# Altium schematic symbol library HC11_lib.SchLib: 34 symbols (part 2 of 2)
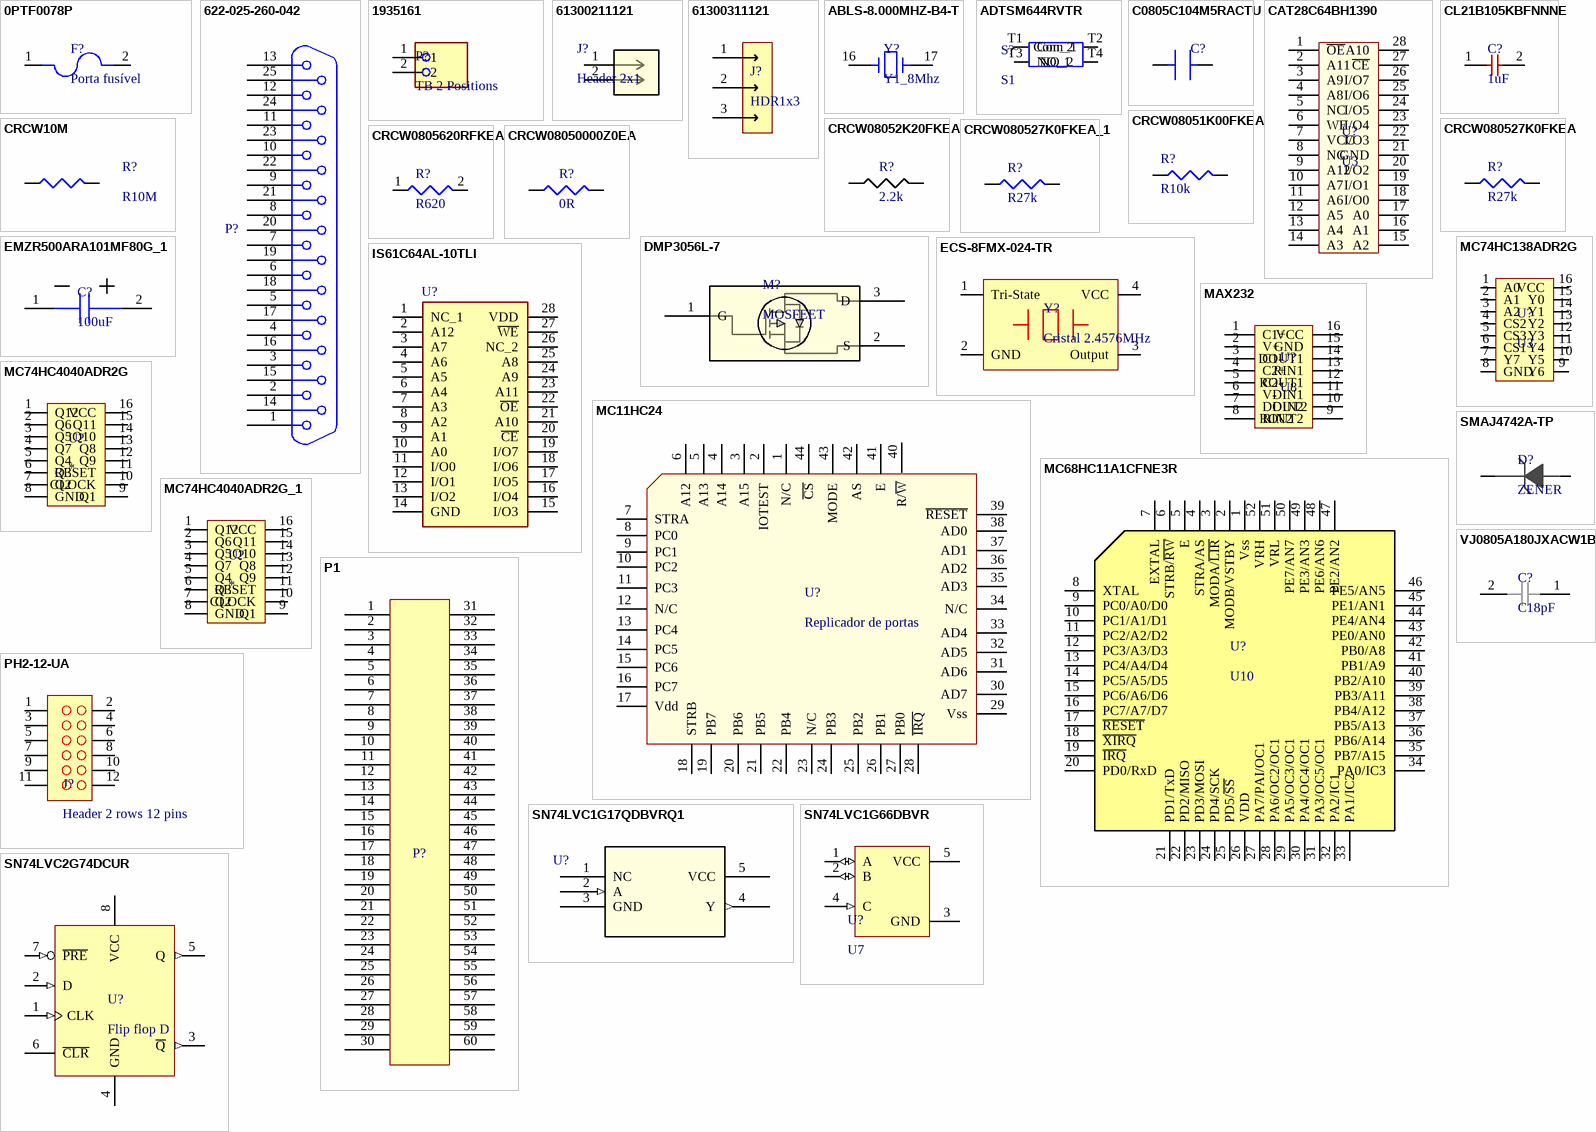
[diagram p1: symbols 0PTF0078P to VJ0805A180JXACW1BC]

## VJ0805A180JXACW1BC
designator C?, comment C18pF
Ceramic Capacitor, Multilayer, Ceramic, 50V, 5% +Tol, 5% -Tol, C0G, -/+30ppm/Cel TC, 0.000018uF, Surface Mount, 0805; Manufacturer: Vishay; Manufacturer Part Number: VJ0805A180JXACW1BC; Manufacturer Series: VJ; Value: 18pF; Multilayer: Yes; Supplier: Mouser; Supplier Part Number: 77-VJ0805A180JXACBC; RoHS: Yes; Category: Ceramic Capacitors; Stock: 8686; Pricing: 1=0,13, 10=0,052, 50=0,052, 100=0,031, 1000=0,025, 10000=0,021 (USD); Mounting Technology: Surface Mount; Pins: 2; Dielectric Material: Ceramic; Package Shape: Rectangular; Case/Package: 0805; Terminal Finish: Tin; Min Operating Temperature: -55°C; Max Operating Temperature: 125°C; JESD-609 Code: e3; Capacitor Type: Ceramic; Tolerance  (fill in as +-): 5%; Packaging: Tape and Reel; Tolerance (fill in as +-): 5%; Rated DC Voltage (URdc): 50V; Temperature Characteristics Code: C0G; Termination: Wraparound; Reach SVHC Compliant: Yes; RoHS Compliant: Yes; ComponentLink1URL: https://datasheet.ciiva.com:443/pdfs/VipMasterIC/IC/BEYS/BEYSS01615/BEYSS01615-1.pdf?src-supplier=IHS+Markit; ComponentLink1Description: https://datasheet.ciiva.com:443/pdfs/VipMasterIC/IC/BEYS/BEYSS01615/BEYSS01615-1.pdf?src-supplier=IHS+Markit; ComponentLink2URL: https://datasheet.ciiva.com/176/vjw1bcbascomseries-176732.pdf?src-supplier=Digikey; ComponentLink2Description: https://datasheet.ciiva.com/176/vjw1bcbascomseries-176732.pdf?src-supplier=Digikey; ComponentLink3URL: https://datasheet.ciiva.com/16511/vjw1bcbascomseries-16511277.pdf?src-supplier=Future+Electronics; ComponentLink3Description: https://datasheet.ciiva.com/16511/vjw1bcbascomseries-16511277.pdf?src-supplier=Future+Electronics; Supplier 1: Mouser; Supplier Part Number 1: 77-VJ0805A180JXACBC
footprint CAP_18pF
pins: 1, 2